# Altium schematic symbol library AP2115M-3.3TRG1.Schlib: 1 symbol
Pins are listed as number, name and electrical type; pins without a type are passive.

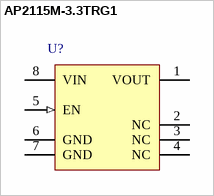
[diagram p0: symbol AP2115M-3.3TRG1]

## AP2115M-3.3TRG1
designator U?
pins: 1 VOUT (power), 2 NC, 3 NC, 4 NC, 5 EN (in), 6 GND (power), 7 GND (power), 8 VIN (power)